# Altium schematic symbol library SCH - MICROCONTROLLER - MAX14931FAWE+.Schlib: 1 symbol
Pins are listed as number, name and electrical type; pins without a type are passive.

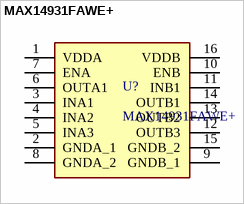
[diagram p0: symbol MAX14931FAWE+]

## MAX14931FAWE+
designator U?
Digital Isolator 16-Pin SOIC W Tube
footprint MAX14931FASE+ (Footprint not found)
pins: 1 VDDA, 2 GNDA_1, 3 INA1, 4 INA2, 5 INA3, 6 OUTA1, 7 ENA, 8 GNDA_2, 9 GNDB_1, 10 ENB, 11 INB1, 12 OUTB3, 13 OUTB2, 14 OUTB1, 15 GNDB_2, 16 VDDB